# Altium footprint library Altium Example Master PCB Library.PcbLib: 219 footprints (part 5 of 14)
Each footprint in its own frame and in the unit in brackets; x right, y up, seen from the top. Pads: shape width x height; smd on the part's side, far side on the other; paste and mask are expansions set on the pad; w line width, h text height; cw(c..) or ccw(c..) is an arc to the next point about the centre after c.
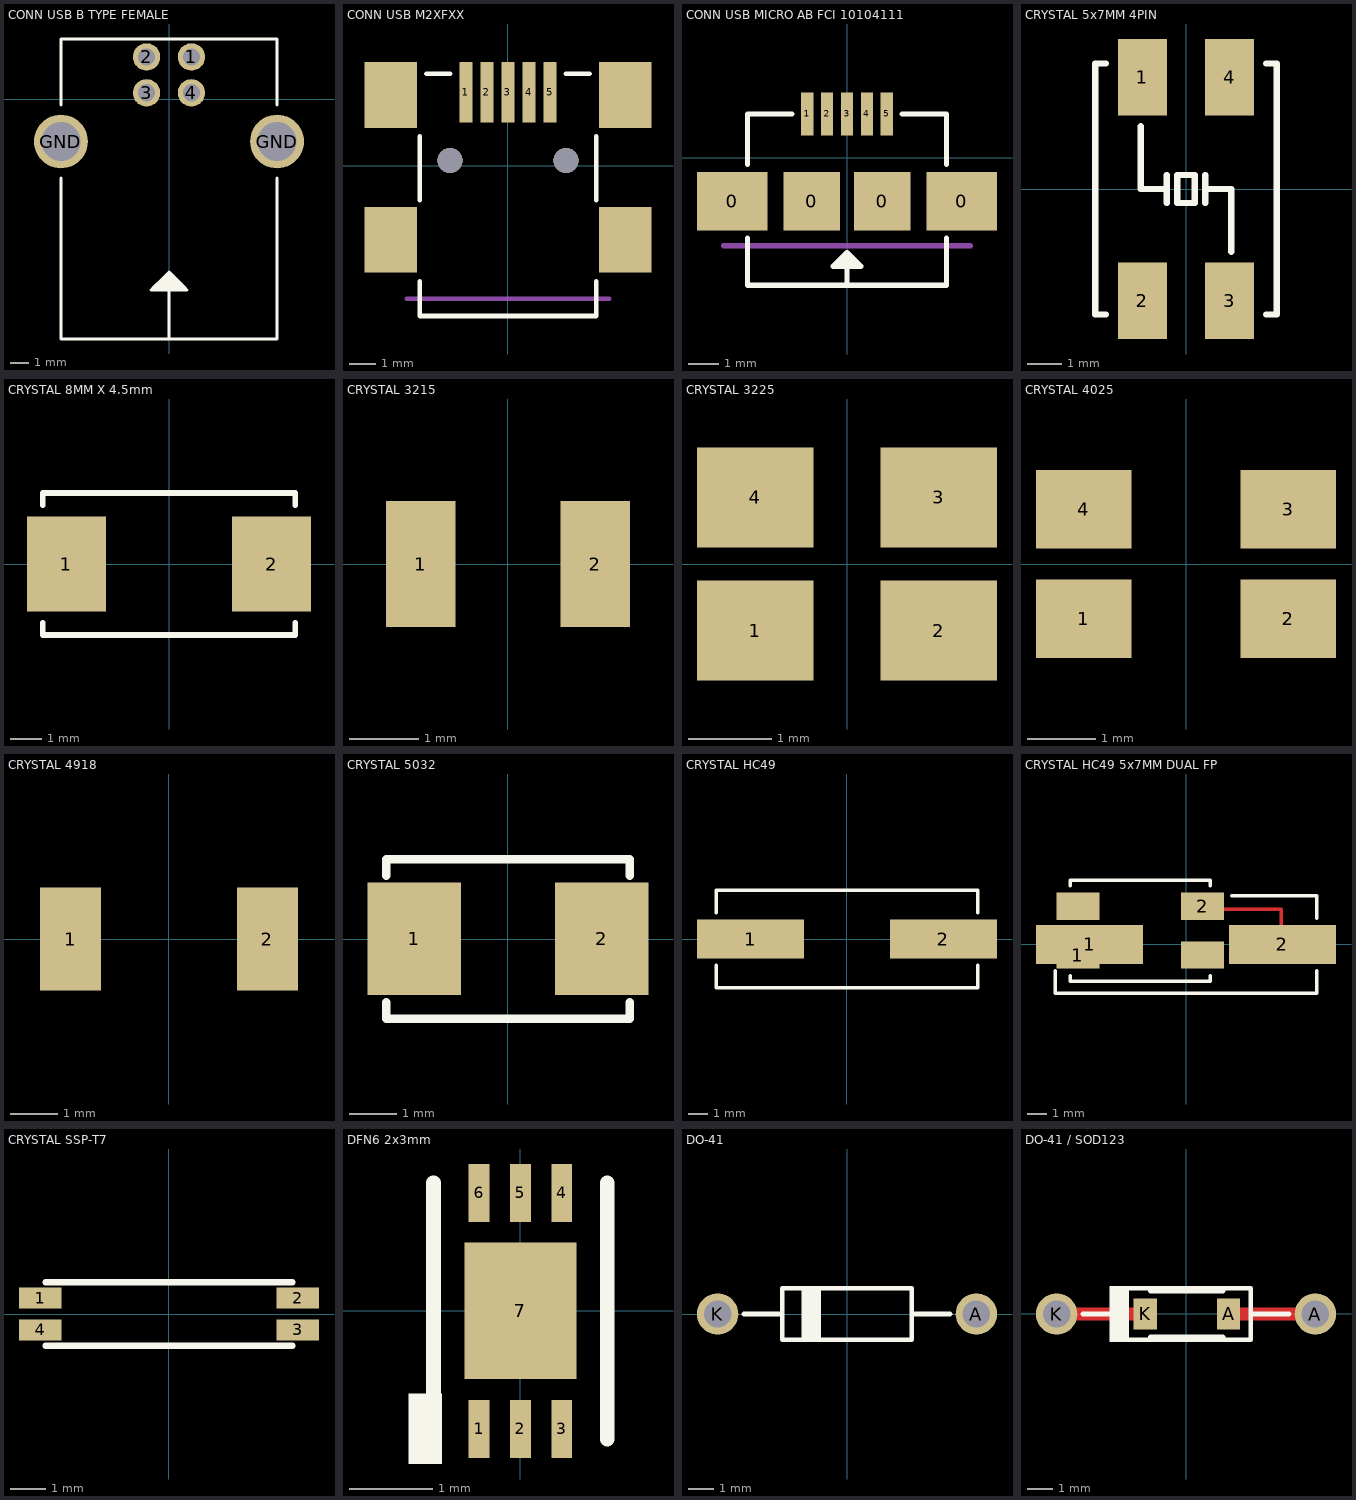
[diagram p4: the footprints below, top view; thin cyan lines are the x and y axes]

## CONN USB B TYPE FEMALE [mm]
pads (6):
  round 1.524 hole 0.965: 1(1.25,2.355) 2(-1.25,2.355) 3(-1.25,0.355) 4(1.25,0.355)
  round 3 hole 2.184: GND(-6.02,-2.355) GND(6.02,-2.355)
Top Overlay:
  lines w0.178: -6.02,-4.387 -6.02,-13.355 6.02,-13.355 6.02,-4.387 ; -6.02,-0.323 -6.02,3.355 6.02,3.355 6.02,-0.323 ; 0.005,-13.33 0.005,-9.63 ; 0.44,-10.065 0.305,-9.93 -0.245,-9.93 -0.42,-10.105 0.48,-10.105 0.654,-10.279 ; 0.788,-10.413 0.655,-10.28 -0.645,-10.28 -0.82,-10.455 ; -0.995,-10.63 1.005,-10.63 ; -0.995,-10.63 0.005,-9.63 ; -0.995,-10.63 -0.82,-10.455 ; -0.82,-10.455 0.83,-10.455 1.005,-10.63 ; 0.005,-9.63 1.005,-10.63

## CONN USB M2XFXX [mm]
pads (9):
  rect 0.5x2.3 smd: 1(-1.6,2.8) 2(-0.8,2.8) 3(0,2.8) 4(0.8,2.8) 5(1.6,2.8)
  rect 2x2.5 smd: ""(-4.45,-2.8) ""(-4.45,2.7) ""(4.45,-2.8) ""(4.45,2.7)
via 2.2,0.2 diameter 0.95 hole 0.95
via -2.2,0.2 diameter 0.95 hole 0.95
Top Overlay:
  lines w0.178: -3.35,-4.375 -3.35,-5.7 3.35,-5.7 3.35,-4.375 ; -3.35,-1.3 -3.35,1.125 ; -3.1,3.5 -2.2,3.5 ; 2.2,3.5 3.1,3.5 ; 3.35,-1.3 3.35,1.125
Mechanical 1:
  lines w0.178: -3.85,-5.05 3.85,-5.05
  text "BOARD EDGE" at -0.925,-4.85 h0.2

## CONN USB MICRO AB FCI 10104111 [mm]
pads (9):
  rect 2.3x1.9 smd: 0(-3.75,-1.425) 0(3.75,-1.425)
  rect 1.85x1.9 smd: 0(-1.15,-1.425) 0(1.15,-1.425)
  rect 0.4x1.4 smd: 1(-1.3,1.425) 2(-0.65,1.425) 3(0,1.425) 4(0.65,1.425) 5(1.3,1.425)
Top Overlay:
  lines w0.178: -3.25,-2.625 -3.25,-4.175 3.25,-4.175 3.25,-2.625 ; -3.25,-0.225 -3.25,1.425 -1.8,1.425 ; -0.278,-3.378 0.178,-3.378 0.2,-3.4 ; 0,-4.175 0,-3.1 ; 1.8,1.425 3.25,1.425 3.25,-0.225 ; 0,-3.1 -0.45,-3.55 0.45,-3.55 0,-3.1
Mechanical 1:
  lines w0.178: -4.03,-2.875 4.03,-2.875
  text "BOARD EDGE" at -0.925,-2.725 h0.2

## CRYSTAL 5x7MM 4PIN [mm]
pads (4):
  rect 1.4x2.2 smd: 1(-1.25,3.2) 2(-1.25,-3.2) 3(1.25,-3.2) 4(1.25,3.2)
Top Overlay:
  lines w0.178: -2.3,-3.6 -2.6,-3.6 -2.6,3.6 -2.3,3.6 ; -1.3,1.8 -1.3,0 -0.55,0 ; -0.55,-0.4 -0.55,0 ; -0.55,0.4 -0.55,0 ; 0.55,-0.4 0.55,0 ; 0.55,0.4 0.55,0 ; 1.3,-1.8 1.3,0 0.55,0 ; 2.3,-3.6 2.6,-3.6 2.6,3.6 2.3,3.6 ; -0.25,-0.4 -0.25,0 -0.25,0.4 0.25,0.4 0.25,0 0.25,-0.4 -0.25,-0.4

## CRYSTAL 8MM X 4.5mm [mm]
pads (2):
  rect 2.5x3 smd: 1(-3.25,0) 2(3.25,0)
Top Overlay:
  lines w0.178: -4,-1.866 -4,-2.25 4,-2.25 4,-1.866 ; -4,1.866 -4,2.25 4,2.25 4,1.866

## CRYSTAL 3215 [mm]
height 0.9
pads (2):
  rect 1x1.8 smd: 1(-1.25,0) 2(1.25,0)

## CRYSTAL 3225 [mm]
pads (4):
  rect 1.4x1.2 smd: 1(-1.1,-0.8) 2(1.1,-0.8) 3(1.1,0.8) 4(-1.1,0.8)

## CRYSTAL 4025 [mm]
pads (4):
  rect 1.4x1.15 smd: 1(-1.5,-0.8) 2(1.5,-0.8) 3(1.5,0.8) 4(-1.5,0.8)

## CRYSTAL 4918 [mm]
pads (2):
  rect 1.3x2.2 smd: 1(-2.1,0) 2(2.1,0)

## CRYSTAL 5032 [mm]
pads (2):
  rect 2x2.4 smd: 1(-2,0) 2(2,0)
Top Overlay:
  lines w0.178: -2.6,-1.35 -2.6,-1.7 2.6,-1.7 2.6,-1.35 ; -2.6,1.35 -2.6,1.7 2.6,1.7 2.6,1.35

## CRYSTAL HC49 [mm]
pads (2):
  rect 5.5x2 smd: 1(-4.95,0) 2(4.95,0)
Top Overlay:
  lines w0.178: -6.7,-1.35 -6.7,-2.5 6.7,-2.5 6.7,-1.35 ; -6.7,1.35 -6.7,2.5 6.7,2.5 6.7,1.35

## CRYSTAL HC49 5x7MM DUAL FP [mm]
pads (6):
  rect 2.2x1.4 smd: 1(-5.55,-0.55) 2(0.85,1.95) ""(-5.55,1.95) ""(0.85,-0.55)
  rect 5.5x2 smd: 1(-4.95,0) 2(4.95,0)
Top Layer:
  lines w0.178: 1,1.8 4.9,1.8 4.9,0.05
Top Overlay:
  lines w0.178: -6.7,-1.35 -6.7,-2.5 6.7,-2.5 6.7,-1.35 ; -5.95,-1.6 -5.95,-1.9 1.25,-1.9 1.25,-1.6 ; -5.95,3 -5.95,3.3 1.25,3.3 1.25,3 ; 2.35,2.5 6.7,2.5 6.7,1.35

## CRYSTAL SSP-T7 [mm]
pads (4):
  rect 1.2x0.6 smd: 1(-3.65,0.45) 2(3.65,0.45) 3(3.65,-0.45) 4(-3.65,-0.45)
Top Overlay:
  lines w0.178: -3.5,-0.9 3.5,-0.9 ; -3.5,0.9 3.5,0.9

## DFN6 2x3mm [mm]
pads (7):
  rect 0.25x0.7 smd: 1(-0.5,-1.425) 2(0,-1.425) 3(0.5,-1.425) 4(0.5,1.425) 5(0,1.425) 6(-0.5,1.425)
  rect 1.35x1.65 smd: 7(0,0)
Top Overlay:
  rectangle: -1.35,-1.85 -0.95,-1
  lines w0.178: -1.05,-1.55 -1.05,1.55 ; 1.05,-1.55 1.05,1.55

## DO-41 [mil]
pads (2):
  round 64 hole 42: A(200,0) K(-200,0)
Top Overlay:
  rectangle: -70,-40 -40,40
  lines w7: -160,0 -100,0 ; -60,-40 -60,40 ; 100,0 160,0 ; -100,-40 100,-40 100,40 -100,40 -100,-40

## DO-41 / SOD123 [mil]
pads (4):
  rect 36x48 smd: A(65.86,0.06) K(-63.14,0.06)
  round 64 hole 42: A(200,-0.06) K(-200,-0.06)
Top Layer:
  lines w7: -63.27,-0.06 -63.14,0.06
  lines w20: -200,-0.06 -63.27,-0.06 ; 65.86,0.06 199.87,0.06 200,-0.06
Top Overlay:
  rectangle: -118.31,-43.37 -88.31,43.24
  lines w7: -160,-0.06 -100,-0.06 ; 100,-0.06 160,-0.06 ; -100,-40.06 -100,39.94 100,39.94 100,-40.06 -100,-40.06
  lines w8: -54.64,-35.44 57.36,-35.44 ; -54.64,35.56 57.36,35.56 ; -34.07,35.56 -30.14,35.56